# Altium schematic symbol library IMR_Lib_Old.SchLib: 36 symbols
Pins are listed as number, name and electrical type; pins without a type are passive.

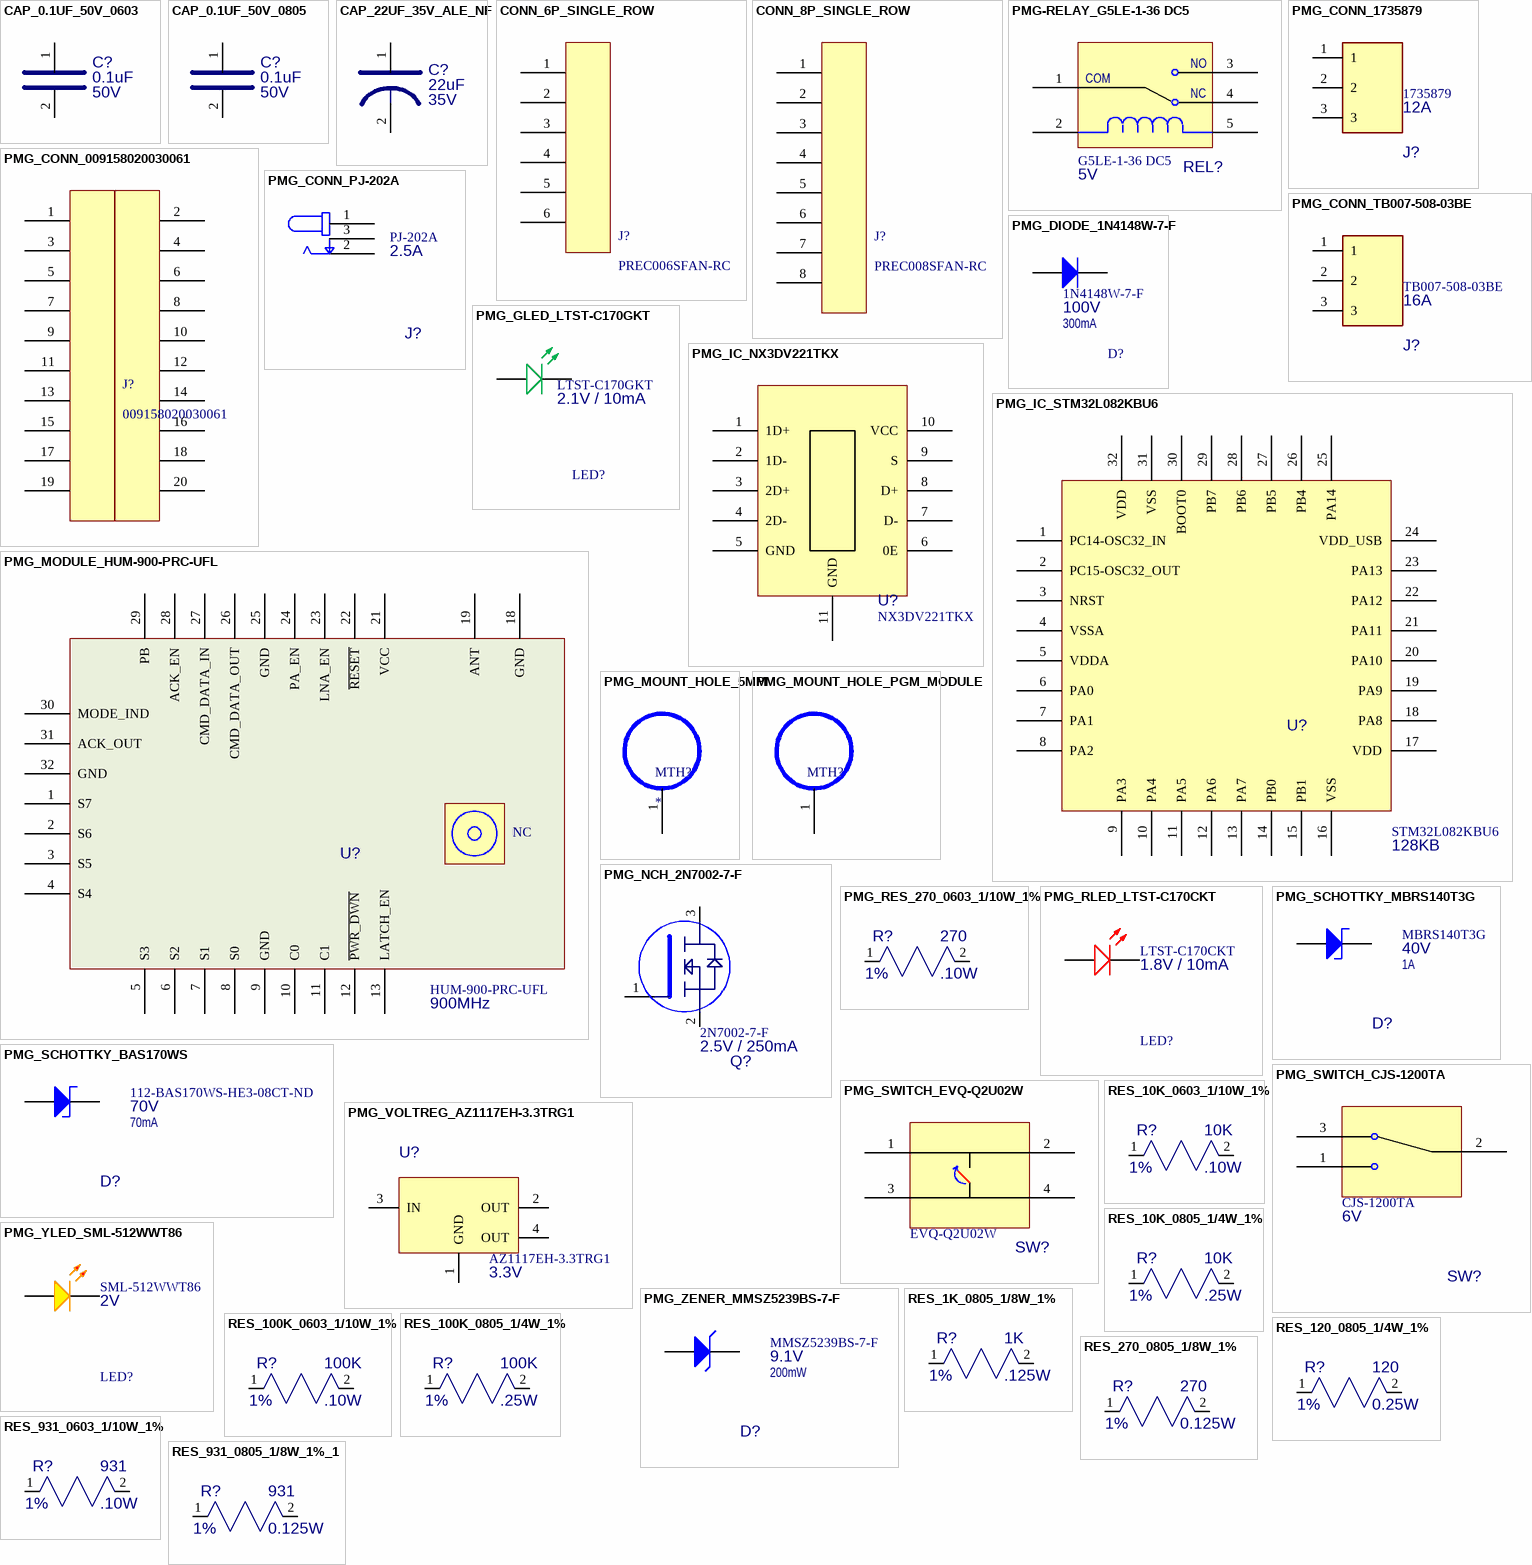
[diagram p0: symbols CAP_0.1UF_50V_0603 to RES_931_0805_1/8W_1%_1]

## CAP_0.1UF_50V_0603
designator C?, comment value 0.1uF  VOLTAGE: 50V  (hidden comment: CC0603KRX7R9BB104)
CAP CER 0.1UF 50V X7R 0603; MFG: Yageo; TOLERANCE: 10%; MFG_PN: CC0603KRX7R9BB104; Supplier 1: Digi-Key; Supplier Part Number 1: 311-1344-1-ND; Case/Package: 0603
footprint CAP_0603 (CAP 0603 50V)
pins: 1, 2

## CAP_0.1UF_50V_0805
designator C?, comment value 0.1uF  VOLTAGE: 50V  (hidden comment: 08055C104KAT2A)
CAP CER 0.1UF 50V X7R 0805; MFG: AVX; TOLERANCE: 10%; MFG_PN: 08055C104KAT2A; Supplier 1: Digi-Key; Supplier Part Number 1: 478-1395-1-ND; Case/Package: 0805
footprint CAP_0805
pins: 1, 2

## CAP_22UF_35V_ALE_NF
designator C?, comment value 22uF  VOLTAGE: 35V  (hidden comment: UZS1C220MCL1GB)  (net tie, no BOM)
CAP, AL E, 22UF, 35V, 20%, ROHS; MFG: NICHICON; MFG_PN: UZS1C220MCL1GB; TOLERANCE: 20%; Supplier 1: Digi-Key; Supplier Part Number 1: 493-10138-1-ND
footprint PMG_CAP_ALE_SMD_6.6x6.6 (CAP_ALE BODY SIZE 6.6mm x 6.6mm 3.9mm Tall)
pins: 1, 2

## CONN_6P_SINGLE_ROW
designator J?, comment PREC006SFAN-RC
CONN HEADER VERT 6POS 2.54MM; MFG: Sullins Connector Solutions; Case/Package: 6P_2.54MM; MFG_PN: PREC006SFAN-RC; Supplier 1: Digi-Key; Supplier Part Number 1: S1212EC-06-ND; Value: *
footprint HDR_1X6_100MILL (SINGLE ROW 6 PIN HDR 2.54MM)
pins: 1, 2, 3, 4, 5, 6

## CONN_8P_SINGLE_ROW
designator J?, comment PREC008SFAN-RC
CONN HEADER VERT 8POS 2.54MM; MFG: Sullins Connector Solutions; Case/Package: 8P_2.54MM; MFG_PN: PREC008SFAN-RC; Supplier 1: Digi-Key; Supplier Part Number 1: S1212EC-08-ND; Value: *
footprint HDR_1X8_100MILL (SINGLE ROW 8 PIN HDR 2.54MM)
pins: 1, 2, 3, 4, 5, 6, 7, 8

## PMG-RELAY_G5LE-1-36 DC5
designator REL?, comment value 5V  (hidden comment: G5LE-1-36 DC5)
RELAY GEN PURPOSE SPDT 10A 5V; MFG: Omron Electronics Inc-EMC Div; Case/Package: 1 Form C; Supplier 1: Digi-Key; Supplier Part Number 1: G5LE-1-36DC5-ND; MFG_PN: G5LE-1-36 DC5
footprint PMG_G5LE-1 (Relay G5LE-1-36 DC5)
pins: 1 COM, 2, 3 NO, 4 NC, 5

## PMG_CONN_1735879
designator J?, comment value 12A  (hidden comment: 1735879)
TERM BLOCK HDR 3POS 90DEG 5.08MM; MFG: Phoenix Contact; Supplier 1: Digi-Key; Supplier Part Number 1: 277-13847-ND; MFG_PN: 1735879
footprint PMG_CONN_1735879 (TERM BLOCK HDR 3POS 90DEG 5.08MM)
pins: 1, 2, 3

## PMG_CONN_009158020030061
designator J?, comment 009158020030061
CONN STACKING 20 POS SM; MFG: AVX Corporation; Case/Package: 009158020030061; MFG_PN: 009158020030061; Supplier 1: Digi-Key; Supplier Part Number 1: 478-009158020030061TR-ND; Value: *
footprint PMG_CONN_009158020030061 (AVX CONN 009158020030061)
pins: 1, 2 1, 3, 4, 5, 6, 7, 8, 9, 10, 11, 12, 13, 14, 15, 16, 17, 18, 19, 20

## PMG_CONN_PJ-202A
designator J?, comment value 2.5A  (hidden comment: PJ-202A)
CONN PWR JACK 2X5.5MM KINKED PIN; MFG: CUI Devices; Supplier 1: Digi-Key; Supplier Part Number 1: CP-202A-ND; MFG_PN: PJ-202A
footprint PMG_CONN_PJ-202A (CUI PJ-202A CONNECTOR)
pins: 1, 2, 3

## PMG_CONN_TB007-508-03BE
designator J?, comment value 16A  (hidden comment: TB007-508-03BE)
TERMINAL BLOCK, SCREW TYPE, 5.08; MFG: CUI Devices; Supplier 1: Digi-Key; Supplier Part Number 1: 102-6204-ND; MFG_PN: TB007-508-03BE
footprint PMG_TB007-508-03BE (CONN RELAY BLOCK)
pins: 1, 2, 3

## PMG_DIODE_1N4148W-7-F
designator D?, comment value 100V  CURRENT: 300mA  (hidden comment: 1N4148W-7-F)
DIODE GEN PURP 100V 300MA SOD123; MFG: Diodes Incorporated; Case/Package: SOD-123; Supplier 1: Digi-Key; Supplier Part Number 1: 1N4148W-FDICT-ND; MFG_PN: 1N4148W-7-F
footprint SOD123
pins: 1 A, 2 K

## PMG_GLED_LTST-C170GKT
designator LED?, comment value 2.1V / 10mA  (hidden comment: LTST-C170GKT)
DIODE, LED GREEN CLEAR SMD; MFG: Lite-On Inc.; Case/Package: 0805; Supplier 1: Digi-Key; Supplier Part Number 1: 160-1179-1-ND; MFG_PN: LTST-C170GKT
footprint PMG_LTST-C170GKT (LTST-C170GKT)
pins: 1 A, 2 K

## PMG_IC_NX3DV221TKX
designator U?, comment NX3DV221TKX
IC USB 2.0 SWITCH HS 10HVSON; MFG: NXP USA Inc.; Case/Package: 10-DFN; Supplier 1: Digi-Key; Supplier Part Number 1: 568-10368-1-ND; MFG_PN: NX3DV221TKX
footprint PMG_NX3DV221TKX (SWDAT_IC USB 2.0 SWITCH HS 10HVSON)
pins: 1 1D+, 2 1D-, 3 2D+, 4 2D-, 5 GND, 6 0E, 7 D-, 8 D+, 9 S, 10 VCC, 11 GND

## PMG_IC_STM32L082KBU6
designator U?, comment value 128KB  (hidden comment: STM32L082KBU6)
IC, MICRO CONTROLLER MCU 32BIT 128KB FLASH 32QFPN; MFG: STMicroelectronics; Case/Package: 32QFN; Supplier 1: Digi-Key; Supplier Part Number 1: 497-18585-ND; MFG_PN: STM32L082KBU6
footprint QFN50P500X500X60-33N
pins: 1 PC14-OSC32_IN, 2 PC15-OSC32_OUT, 3 NRST, 4 VSSA, 5 VDDA, 6 PA0, 7 PA1, 8 PA2, 9 PA3, 10 PA4, 11 PA5, 12 PA6, 13 PA7, 14 PB0, 15 PB1, 16 VSS, 17 VDD, 18 PA8, 19 PA9, 20 PA10, 21 PA11, 22 PA12, 23 PA13, 24 VDD_USB, 25 PA14, 26 PB4, 27 PB5, 28 PB6, 29 PB7, 30 BOOT0, 31 VSS, 32 VDD, 33 hidden to GND

## PMG_MODULE_HUM-900-PRC-UFL
designator U?, comment value 900MHz  (hidden comment: HUM-900-PRC-UFL)
RX TXRX MOD ISM < 1GHZ U.FL SMD; MFG: Linx Technologies Inc.; Case/Package: HUM-900-PRC-UFL; Supplier 1: Digi-Key; Supplier Part Number 1: HUM-900-PRC-UFL-ND; MFG_PN: HUM-900-PRC-UFL
footprint PMG_MODULE_HUM-900-PRC-UFL (RX TXRX MOD ISM < 1GHZ U.FL SMD)
pins: 1 S7, 2 S6, 3 S5, 4 S4, 5 S3, 6 S2, 7 S1, 8 S0, 9 GND, 10 C0, 11 C1, 12 ~{PWR_DWN}, 13 LATCH_EN, 18 GND, 19 ANT, 21 VCC, 22 ~{RESET}, 23 LNA_EN, 24 PA_EN, 25 GND, 26 CMD_DATA_OUT, 27 CMD_DATA_IN, 28 ACK_EN, 29 PB, 30 MODE_IND, 31 ACK_OUT, 32 GND
text: NC

## PMG_MOUNT_HOLE_5MM
designator MTH?  (no BOM)
3MM IN D. MT HOLE
footprint PMG_MT_HOLE_3MM (3MM IN D)
pins: 1

## PMG_MOUNT_HOLE_PGM_MODULE
designator MTH?  (value not drawn)  (no BOM)
3MM IN D. MT HOLE
footprint PMG_MT_HOLE_PMG_MODULE (245MIL OD, 134ID)
pins: 1

## PMG_NCH_2N7002-7-F
designator Q?, comment value 2.5V / 250mA  (hidden comment: 2N7002-7-F)
MOSFET N-CH 60V 115MA SOT23-3; MFG: Diodes Incorporated; Case/Package: SOT-23; Supplier 1: Digi-Key; Supplier Part Number 1: 2N7002-FDICT-ND; MFG_PN: 2N7002-7-F
footprint SOT-23 (SOT23-3)
pins: 1 B, 2 E, 3 C

## PMG_RES_270_0603_1/10W_1%
designator R?, comment value 270  TOLERANCE: 1%  POWER: .10W  (hidden comment: RC0603FR-07270RL)
RES SMD 270 OHM 1% 1/10W 0603; MFG: Yageo; Case/Package: 0603; MFG_PN: RC0603FR-07270RL; Supplier 1: Digi-Key; Supplier Part Number 1: 311-270HRCT-ND
footprint RES_0603 (RES 0603 .125W)
pins: 1, 2

## PMG_RLED_LTST-C170CKT
designator LED?, comment value 1.8V / 10mA  (hidden comment: LTST-C170CKT)
DIODE, LED RED CLEAR SMD; MFG: Lite-On Inc.; Case/Package: 0805; Supplier 1: Digi-Key; Supplier Part Number 1: 160-1176-1-ND; MFG_PN: LTST-C170CKT
footprint PMG_LTST-C170CKT (LTST-C170CKT)
pins: 1 A, 2 K

## PMG_SCHOTTKY_BAS170WS
designator D?, comment value 70V  CURRENT: 70mA  (hidden comment: 112-BAS170WS-HE3-08CT-ND)
DIODE SCHOTTKY 70V 70mA SOD323; MFG: Vishay Semiconductor; Case/Package: SOD323; Supplier 1: Digi-Key; Supplier Part Number 1: MBRS140T3GOSCT-ND; MFG_PN: 112-BAS170WS-HE3-08CT-ND
footprint SOD323
pins: 1 A, 2 K

## PMG_SCHOTTKY_MBRS140T3G
designator D?, comment value 40V  CURRENT: 1A  (hidden comment: MBRS140T3G)
DIODE SCHOTTKY 40V 1A SMB; MFG: ON Semiconductor; Case/Package: SMB; Supplier 1: Digi-Key; Supplier Part Number 1: MBRS140T3GOSCT-ND; MFG_PN: MBRS140T3G
footprint SMB (DIODE SCHOTTKY 40V 1A SMB)
pins: 1 A, 2 K

## PMG_SWITCH_CJS-1200TA
designator SW?, comment value 6V  (hidden comment: CJS-1200TA)
SWITCH SLIDE SPDT 100MA 6V; MFG: Nidec Copal Electronics; Case/Package: CJS-1200TA; Supplier 1: Digi-Key; Supplier Part Number 1: 563-1021-1-ND; MFG_PN: CJS-1200TA
footprint SW_CJS-1200TA (SWITCH CJS-1200TA)
pins: 1, 2, 3

## PMG_SWITCH_EVQ-Q2U02W
designator SW?, comment EVQ-Q2U02W
SWITCH TACTILE SPST-NO 0.02A 15V; MFG: Panasonic Electronic Components; Case/Package: EVQ-Q2; Supplier 1: Digi-Key; Supplier Part Number 1: P12954SCT-ND; VALUE: 15V; MFG_PN: EVQ-Q2U02W
footprint SW_EVQ-Q2U02W (SWITCH)
pins: 1 B, 2 B', 3 A, 4 A'

## PMG_VOLTREG_AZ1117EH-3.3TRG1
designator U?, comment value 3.3V  (hidden comment: AZ1117EH-3.3TRG1)
Linear Voltage Regulator IC Output 1A SOT-223; MFG: Diodes Incorporated; Supplier 1: Digi-Key; Supplier Part Number 1: AZ1117EH-3.3TRG1DICT-ND; Case/Package: SOT223; MFG_PN: AZ1117EH-3.3TRG1
footprint SOT223
pins: 1 GND, 2 OUT, 3 IN, 4 OUT

## PMG_YLED_SML-512WWT86
designator LED?, comment value 2V  (hidden comment: SML-512WWT86)
LED YELLOW DIFFUSED 0603 SMD; MFG: Rohm Semiconductor; Case/Package: 0603; Supplier 1: Digi-Key; Supplier Part Number 1: 511-1315-1-ND; MFG_PN: SML-512WWT86
footprint PMG_YLED_SML-512WWT86 (LED YELLOW DIFFUSED 0603 SMD)
pins: 1 A, 2 K

## PMG_ZENER_MMSZ5239BS-7-F
designator D?, comment value 9.1V  POWER: 200mW  (hidden comment: MMSZ5239BS-7-F)
DIODE ZENER 9.1V 200MW SOD323; MFG: Vishay Semiconductor; Case/Package: SOD323; Supplier 1: Digi-Key; Supplier Part Number 1: MMSZ5239BS-FDICT-ND; MFG_PN: MMSZ5239BS-7-F
footprint SOD323
pins: 1 A, 2 K

## RES_1K_0805_1/8W_1%
designator R?, comment value 1K  TOLERANCE: 1%  POWER: .125W  (hidden comment: RC0805FR-071KL)
RES SMD 1K OHM 1% 1/8W 0805; MFG: Yageo; Case/Package: 0805; MFG_PN: RC0805FR-071KL; Supplier 1: Digi-Key; Supplier Part Number 1: 311-1.00KCRCT-ND
footprint RES_0805
pins: 1, 2

## RES_10K_0603_1/10W_1%
designator R?, comment value 10K  TOLERANCE: 1%  POWER: .10W  (hidden comment: RC0603FR-0710KL)
RES SMD 10K OHM 1% 1/10W 0603; MFG: Yageo; Case/Package: 0603; MFG_PN: RC0603FR-0710KL; Supplier 1: Digi-Key; Supplier Part Number 1: 311-10.0KHRCT-ND
footprint RES_0603 (RES 0603 .125W)
pins: 1, 2

## RES_10K_0805_1/4W_1%
designator R?, comment value 10K  TOLERANCE: 1%  POWER: .25W  (hidden comment: SG73S2ATTD1002F)
RES SMD 10K OHM 1% 1/4W 0805; MFG: KOA Speer Electronics, Inc.; Case/Package: 0805; MFG_PN: SG73S2ATTD1002F; Supplier 1: Digi-Key; Supplier Part Number 1: 2019-SG73S2ATTD1002FCT-ND
footprint PMG_RES_0805
pins: 1, 2

## RES_100K_0603_1/10W_1%
designator R?, comment value 100K  TOLERANCE: 1%  POWER: .10W  (hidden comment: RC0603FR-07100KL)
RES SMD 100K OHM 1% 1/10W 0603; MFG: Yageo; Case/Package: 0603; MFG_PN: RC0603FR-07100KL; Supplier 1: Digi-Key; Supplier Part Number 1: 311-10.0KHRCT-ND
footprint RES_0603 (RES 0603 .125W)
pins: 1, 2

## RES_100K_0805_1/4W_1%
designator R?, comment value 100K  TOLERANCE: 1%  POWER: .25W  (hidden comment: RK73H2ATTD1003F)
RES SMD 100K OHM 1% 1/4W 0805; MFG: KOA Speer Electronics, Inc.; Case/Package: 0805; MFG_PN: RK73H2ATTD1003F; Supplier 1: Digi-Key; Supplier Part Number 1: 2019-RK73H2ATTD1003FCT-ND
footprint PMG_RES_0805
pins: 1, 2

## RES_120_0805_1/4W_1%
designator R?, comment value 120  TOLERANCE: 1%  POWER: 0.25W  (hidden comment: RK73H2ATTD1200F)
RES 120 OHM 1% 1/4W 0805; MFG: KOA Speer Electronics, Inc.; Case/Package: 0805; MFG_PN: RK73H2ATTD1200F; Supplier 1: Digi-Key; Supplier Part Number 1: 2019-RK73H2ATTD1200FCT-ND
footprint PMG_RES_0805
pins: 1, 2

## RES_270_0805_1/8W_1%
designator R?, comment value 270  TOLERANCE: 1%  POWER: 0.125W  (hidden comment: ERJ-6ENF2700V)
RES 270 OHM 1% 1/8W 0805; MFG: Panasonic Electronic Components; Case/Package: 0805; MFG_PN: ERJ-6ENF2700V; Supplier 1: Digi-Key; Supplier Part Number 1: P270CCT-ND
footprint PMG_RES_0805
pins: 1, 2

## RES_931_0603_1/10W_1%
designator R?, comment value 931  TOLERANCE: 1%  POWER: .10W  (hidden comment: RC0603FR-07931RL)
RES SMD 931 OHM 1% 1/10W 0603; MFG: Yageo; Case/Package: 0603; MFG_PN: RC0603FR-07931RL; Supplier 1: Digi-Key; Supplier Part Number 1: 311-931HRCT-ND
footprint RES_0603 (RES 0603 .125W)
pins: 1, 2

## RES_931_0805_1/8W_1%_1
designator R?, comment value 931  TOLERANCE: 1%  POWER: 0.125W  (hidden comment: ERJ-6ENF9310V)
RES 931 OHM 1% 1/8W 0805; MFG: Panasonic Electronic Components; Case/Package: 0805; MFG_PN: ERJ-6ENF9310V; Supplier 1: Digi-Key; Supplier Part Number 1: P931CCT-ND
footprint RES_0805
pins: 1, 2